# Altium integrated library Integrated_Library.IntLib: 3 symbols
Pins are listed as number, name and electrical type; pins without a type are passive.

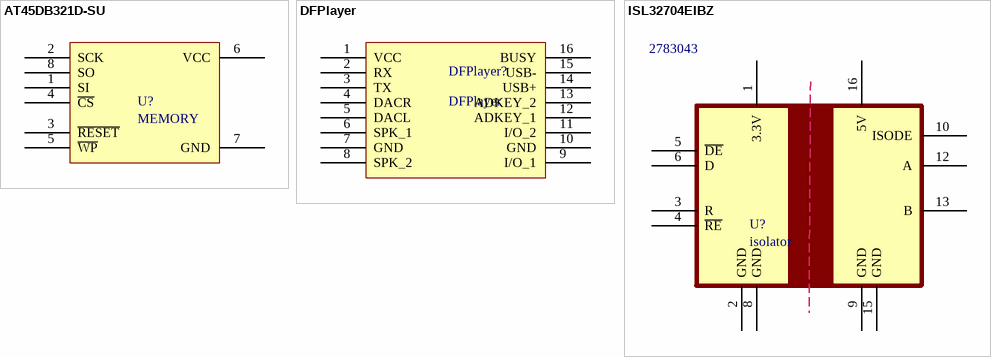
[diagram p0: symbols AT45DB321D-SU to ISL32704EIBZ]

## AT45DB321D-SU
designator U?, comment MEMORY
Supplier 1: Farnell; Supplier Part Number 1: 2414318
footprint SOIC8 8S2_N (8-Pin Small Outline Package 1.27 mm Pitch, IPC Medium Density)
footprint SOIC8 8S2_M (8-Pin Small Outline Package 1.27 mm Pitch, IPC Low Density)
footprint SOIC8 8S2_L (8-Pin Small Outline Package 1.27 mm Pitch, IPC High Density)
pins: 1 SI, 2 SCK, 3 ~{RESET}, 4 ~{CS}, 5 ~{WP}, 6 VCC, 7 GND, 8 SO

## DFPlayer
designator DFPlayer?
Introduction:  Sing for the moment! The DFPlayer Mini is a small and low cost MP3 module with an simplified output directly to the speaker. The module can be used as a stand alone module with attached battery, speaker and push buttons or used in combination with an Arduino UNO or any other with RX/TX capabilities.  The DFPlayer perfectly integrates hard decoding module, which supports common audio formats such as MP3, WAV and WMA. Besides, it also supports TF card with FAT16, FAT32 file system. Through a simple serial port, you can play the designated music without any other tedious underlying operations.
pins: 1 VCC, 2 RX, 3 TX, 4 DACR, 5 DACL, 6 SPK_1, 7 GND, 8 SPK_2, 9 I/O_1, 10 GND, 11 I/O_2, 12 ADKEY_1, 13 ADKEY_2, 14 USB+, 15 USB-, 16 BUSY

## ISL32704EIBZ
designator U?, comment isolator  Supplier Part Number 1: 2783043
Supplier 1: Farnell
footprint WSOIC16_M (16-Pin Small Outline Integrated Circuit 1.27 mm Pitch, IPC Low Density)
footprint WSOIC16_N (16-Pin Small Outline Integrated Circuit 1.27 mm Pitch, IPC Medium Density)
pins: 1 3.3V, 2 GND, 3 R, 4 ~{RE}, 5 ~{DE}, 6 D, 8 GND, 9 GND, 10 ISODE, 12 A, 13 B, 15 GND, 16 5V